# EAGLE library part MIC28516T-E/PHA (library ruark2)
Switching Voltage Regulators 70V/8A Hyper Speed Control Synchronous DC/DC Buck Regulator with External Soft Start
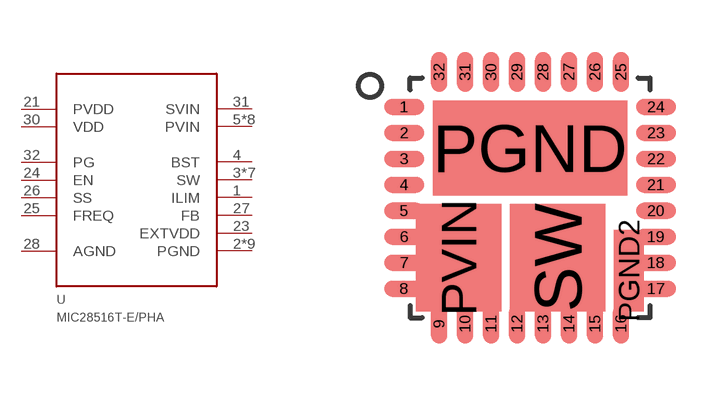
[diagram p141: symbol with the pads of MIC28516; footprint MIC28516]

Designator prefix U

## MIC28516T-E/PHA (PARTNO: 150-MIC28516T-E/PHACT-ND)  [MIC28516]
1  ILIM
2  PGND
3  SW
4  BST
5  PVIN
6  PVIN
7  PVIN
8  PVIN
9  PVIN
10  PVIN
11  PVIN
12  SW
13  SW
14  SW
15  SW
16  PGND
17  PGND
18  PGND
19  PGND
20  SW
21  PVDD
22  PGND
23  EXTVDD
24  EN
25  FREQ
26  SS
27  FB
28  AGND
29  PGND
30  VDD
31  SVIN
32  PG
PGND  PGND
PGND2  PGND
PVIN  PVIN
SW  SW

## Footprint MIC28516 (pad centres in mm)
smd 1 x 0.4: 1 -3.15,2.275; 2 -3.15,1.625; 3 -3.15,0.975; 4 -3.15,0.325; 5 -3.15,-0.325; 6 -3.15,-0.975; 7 -3.15,-1.625; 8 -3.15,-2.275; 17 3.15,-2.275; 18 3.15,-1.625; 19 3.15,-0.975; 20 3.15,-0.325; 21 3.15,0.325; 22 3.15,0.975; 23 3.15,1.625; 24 3.15,2.275
smd 0.4 x 1: 9 -2.275,-3.15; 10 -1.625,-3.15; 11 -0.975,-3.15; 12 -0.325,-3.15; 13 0.325,-3.15; 14 0.975,-3.15; 15 1.625,-3.15; 16 2.275,-3.15; 25 2.275,3.15; 26 1.625,3.15; 27 0.975,3.15; 28 0.325,3.15; 29 -0.325,3.15; 30 -0.975,3.15; 31 -1.625,3.15; 32 -2.275,3.15
smd 4.86 x 2.37: PGND 0,1.245
smd 0.75 x 2.04: PGND2 2.475,-1.82
smd 2.14 x 2.69: PVIN -1.78,-1.495
smd 2.39 x 2.69: SW 0.695,-1.495